# EAGLE library part R-8 (library PASSIVE)
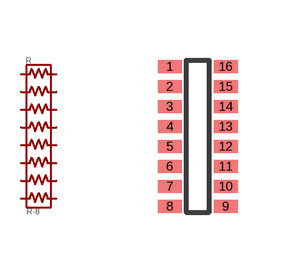
[diagram p0: symbol with the pads of R8-0602; footprint R8-0602]

Designator prefix R

## R-810KEXB2HV (MPN: EXB-2HV103JV; VALUE: 10K), R-81KEXB2HV (MPN: EXB-2HV102JV; VALUE: 1K), R-81MEGEXB2HV (MPN: EXB-2HV105JV; VALUE: 1Meg), R-85K1EXB2HV (MPN: EXB-2HV512JV; VALUE: 5.1K)  [R8-0602]
1  1
2  2
3  3
4  4
5  5
6  6
7  7
8  8
9  9
10  10
11  11
12  12
13  13
14  14
15  15
16  16

## Footprint R8-0602 (pad centres in mm)
smd 0.6 x 0.325: 1 -0.7,1.75; 2 -0.7,1.25; 3 -0.7,0.75; 4 -0.7,0.25; 5 -0.7,-0.25; 6 -0.7,-0.75; 7 -0.7,-1.25; 8 -0.7,-1.75; 9 0.7,-1.75; 10 0.7,-1.25; 11 0.7,-0.75; 12 0.7,-0.25; 13 0.7,0.25; 14 0.7,0.75; 15 0.7,1.25; 16 0.7,1.75